# Altium footprint library PCB1.PcbLib: 16 footprints
Each footprint in its own frame and in the unit in brackets; x right, y up, seen from the top. Pads: shape width x height; smd on the part's side, far side on the other; paste and mask are expansions set on the pad; w line width, h text height; cw(c..) or ccw(c..) is an arc to the next point about the centre after c.
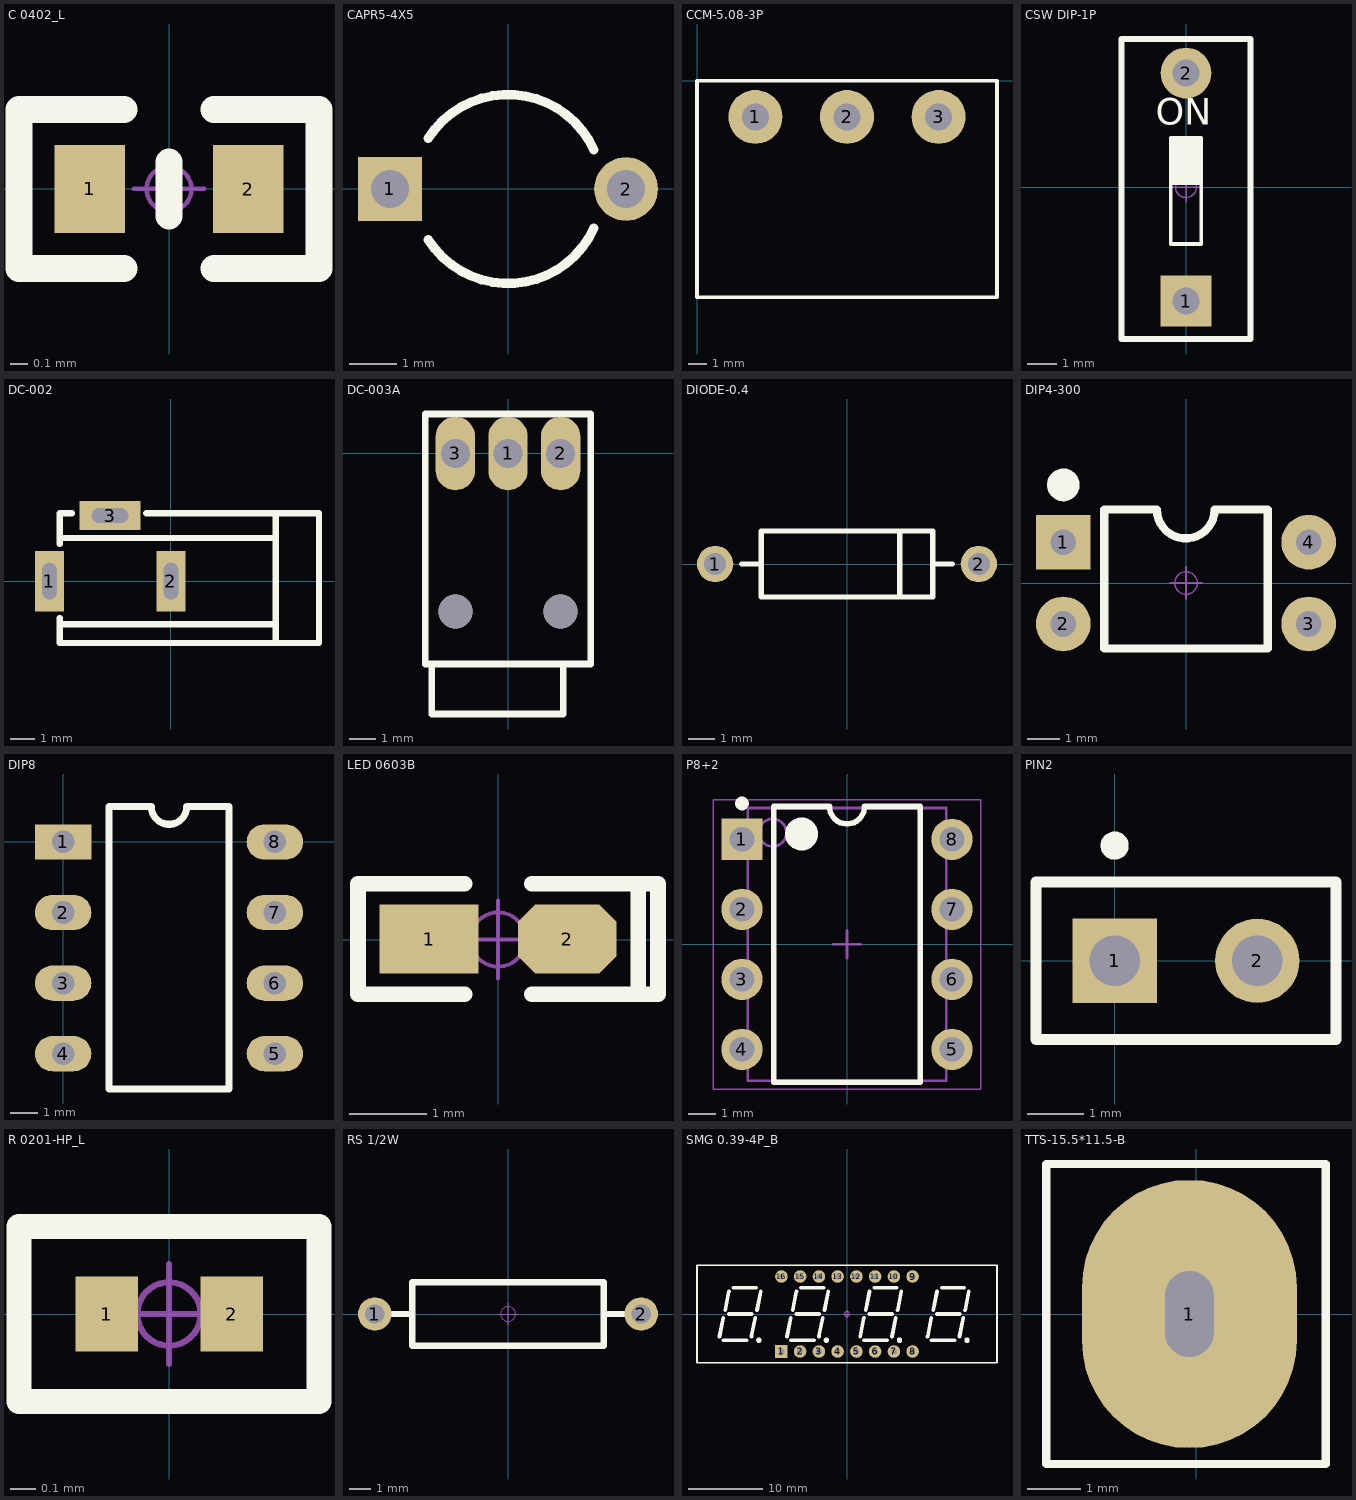
[diagram p0: the footprints below, top view; thin cyan lines are the x and y axes]

## C 0402_L [mm] "无极性贴片电容"
pads (2):
  rect 0.4x0.5 smd: 1(-0.45,0) 2(0.45,0)
Top Overlay:
  lines w0.152: -0.254,-0.45 -0.85,-0.45 ; -0.254,0.45 -0.85,0.45 -0.85,-0.45 ; 0,-0.152 0,0.152 ; 0.254,-0.45 0.85,-0.45 0.85,0.45 0.254,0.45 ; -0.85,-0.45 -0.85,-0.45
Mechanical 15:
  circle w0.025: c0,0 r0.127
  lines w0.025: -0.2,0 0.2,0 ; 0,-0.2 0,0.2
3D body "C 0402.STEP": height 0.53, standoff 0.01, extent -0.5,-0.26 0.5,0.26

## CAPR5-4X5 [mm] "Capacitor; 2 Leads"
height 12
pads (2):
  rect 1.35x1.35 hole 0.8: 1(-2.5,0)
  round 1.35 hole 0.8: 2(2.5,0)
Top Overlay:
  lines w0.2: -1.687,-1.075 ccw(c0,0) 1.819,-0.832 ; -1.687,1.075 cw(c0,0) 1.819,0.832

## CCM-5.08-3P [mm] "蒜米工坊"
pads (3):
  round 3 hole 1.5: 1(3.24,-2) 2(8.32,-2) 3(13.4,-2)
Top Overlay:
  lines w0.203: 5.08,-12 16.64,-12 16.64,0 5.08,0 ; 11.56,-12 0,-12 0,0 11.56,0
3D body "5.08-3P.STEP": height 8.5, standoff -4, extent 0.062,-11.938 16.702,0.062

## CSW DIP-1P [mm] "4.1*9.9*7mm"
pads (2):
  rect 1.7x1.7 hole 0.9: 1(0,-3.81)
  round 1.7 hole 0.9: 2(0,3.81)
Top Overlay:
  rectangle: -0.508,0.127 0.508,1.651
  lines w0.127: -0.508,0.127 0.508,0.127 ; -0.508,-1.905 -0.508,1.651 0.508,1.651 0.508,-1.905 -0.508,-1.905
  lines w0.2: -2.159,-5.08 -2.159,4.953 2.159,4.953 2.159,-5.08 -2.159,-5.08
  text "ON" at -1.016,1.778 h1.52
Mechanical 15:
  circle w0.05: c0,0 r0.35
  lines w0.05: -0.5,0 0.5,0 ; 0,-0.5 0,0.5
3D body "CSW DIP-1P.STEP": height 6.65, standoff -3.15, extent -2.05,-4.95 2.05,4.95

## DC-002 [mm] "3.5*1.1mm,"
pads (3):
  rect 1.2x2.5 hole 0.6 slot 1.5 at 90 deg: 1(-5,0) 2(0,0)
  rect 2.5x1.2 hole 0.6 slot 1.5 at 0 deg: 3(-2.5,2.7)
Top Overlay:
  lines w0.254: -4.572,-1.778 4.318,-1.778 ; -4.572,-1.524 -4.572,-2.54 6.096,-2.54 6.096,2.794 -1.016,2.794 ; -4.572,1.524 -4.572,2.794 -4.064,2.794 ; -4.572,1.778 4.318,1.778 ; 4.318,-2.54 4.318,-1.778 ; 4.318,2.794 4.318,1.778 ; 4.318,-1.778 4.318,1.778
3D body "dc-002.STEP": height 7.3, standoff -3.4, extent -5.3,-2.5 6,2.85

## DC-003A [mm] "3.5*1.1mm"
pads (3):
  oval 1.5x2.8 hole 1.1: 1(0,0) 2(2,0) 3(-2,0)
via -2,-6 diameter 1.3 hole 1.3
via 2,-6 diameter 1.3 hole 1.3
Top Overlay:
  lines w0.254: -2.896,-8 -2.896,-9.9 2.104,-9.9 2.104,-8 ; -3.15,-8 -3.15,1.5 3.15,1.5 3.15,-8 -3.15,-8
3D body "dc-003A.STEP": height 5.02, standoff -3.18, extent -3.15,-9.9 3.15,1

## DIODE-0.4 [mm] "Diode, Thru-Hole; 2 Leads; 0.4 in Pin Spacing"
height 2.54
pads (2):
  round 1.4 hole 0.85: 1(-5.08,0) 2(5.08,0)
Top Overlay:
  lines w0.2: -4.064,0 -3.302,0 ; 2.032,-1.27 2.032,1.27 ; 3.302,0 4.064,0 ; -3.302,-1.27 -3.302,1.27 3.302,1.27 3.302,-1.27 -3.302,-1.27

## DIP4-300 [mm] "4.6*7.6*3.8(长宽高）"
pads (4):
  rect 1.7x1.7 hole 0.8: 1(-3.81,1.27)
  round 1.7 hole 0.8: 2(-3.81,-1.27) 3(3.81,-1.27) 4(3.81,1.27)
Top Overlay:
  circle w0.508: c-3.81,3.048 r0.254
  lines w0.254: -2.54,-2.032 2.54,-2.032 2.54,2.286 0.889,2.286 cw(c-0.009,2.286) -0.907,2.286 -2.54,2.286 -2.54,-2.032
Mechanical 15:
  circle w0.05: c0,0 r0.35
  lines w0.05: -0.5,0 0.5,0 ; 0,-0.5 0,0.5
3D body "DIP4-300.STEP": height 4.5, standoff -3.29, extent -3.935,-2.29 3.935,2.29

## DIP8 [mil] "8脚300mil直插集成电路（蒜米工坊）"
pads (8):
  rect 80x50 hole 32: 1(0,0)
  oval 80x50 hole 32: 2(0,-100) 3(0,-200) 4(0,-300) 5(300,-300) 6(300,-200) 7(300,-100) 8(300,0)
Top Overlay:
  lines w10: 65,-350 235,-350 235,50 175,50 cw(c150,50) 125,50 65,50 65,-350
3D body "DIP8.STEP": height 177.17, standoff -137.8, extent -2.76,-362.6 302.77,62.6

## LED 0603B [mil] "蓝色0603LED"
pads (2):
  rect 50x35 smd: 1(-35,0.26)
  oct 50x35 smd: 2(35,0.26)
Top Overlay:
  lines w8: -17,-27.74 -71,-27.74 -71,-25.74 -71,28.26 -70,28.26 -17,28.26 ; 17,-27.74 70,-27.74 ; 17,28.26 71,28.26 81,28.26 81,-27.74 71,-27.74 71,26.26
Mechanical 15:
  circle w1.97: c0,0 r13.78
  lines w1.97: -19.68,0 19.68,0 ; 0,-19.68 0,19.68
3D body "LED 0603-B.STEP": height 18.36, standoff -0.16, extent -31.49,-15.79 31.5,15.79
3D body "LED 0603玻璃罩.STEP": height 23.82, standoff 8.07, extent -23.58,-15.79 23.58,15.79

## P8+2 [mm] "DIP, 8-Leads, Row Spacing 7.62mm, Pitch 2.54mm, Body 9.4x7mm"
height 4.58
pads (8):
  rect 1.5x1.5 hole 0.9: 1(-3.81,3.81)
  round 1.5 hole 0.9: 2(-3.81,1.27) 3(-3.81,-1.27) 4(-3.81,-3.81) 5(3.81,-3.81) 6(3.81,-1.27) 7(3.81,1.27) 8(3.81,3.81)
Top Overlay:
  circle w0.25: c-3.81,5.11 r0.125
  circle w0.6: c-1.65,4 r0.3
  lines w0.2: -2.65,-5 -2.65,5 -0.635,5 ccw(c0,5) 0.635,5 2.65,5 2.65,-5 -2.65,-5
Mechanical 13:
  circle w0.1: c-2.7,4.05 r0.5
  lines w0.1: -3.6,-4.95 -3.6,4.95 3.6,4.95 3.6,-4.95 -3.6,-4.95
Mechanical 15:
  lines w0.05: -4.85,-5.25 -4.85,5.25 4.85,5.25 4.85,-5.25 -4.85,-5.25
  lines w0.1: -0.5,0 0.5,0 ; 0,-0.5 0,0.5
3D body: height 4.57, standoff 0.38, extent -3.6,-4.95 3.6,4.95

## PIN2 [mm] "Photosensitive Diode; 2 Leads"
pads (2):
  rect 1.5x1.5 hole 0.9: 1(0,0)
  round 1.5 hole 0.9: 2(2.54,0)
Top Overlay:
  circle w0.25: c0,2.05 r0.125
  lines w0.2: -1.4,-1.4 -1.4,1.4 3.94,1.4 3.94,-1.4 -1.4,-1.4

## R 0201-HP_L [mm] "1/20W高精度贴片电阻"
pads (2):
  rect 0.25x0.3 smd: 1(-0.25,0) 2(0.25,0)
Top Overlay:
  lines w0.102: -0.6,-0.35 -0.6,0.35 0.6,0.35 0.6,-0.35 -0.6,-0.35
Mechanical 15:
  circle w0.025: c0,0 r0.127
  lines w0.025: -0.2,0 0.2,0 ; 0,-0.2 0,0.2
3D body "R 0201-HP.STEP": height 0.23, standoff 0, extent -0.3,-0.15 0.3,0.15

## RS 1/2W [mm] "直插色环电阻，脚距12.5mm，直径3mm"
pads (2):
  round 1.575 hole 0.9: 1(-6.25,0) 2(6.25,0)
Top Overlay:
  lines w0.305: -5.5,0 -4.5,0 ; 4.5,0 5.5,0 ; -4.5,-1.5 -4.5,1.5 4.5,1.5 4.5,-1.5 -4.5,-1.5
Mechanical 15:
  circle w0.05: c0,0 r0.35
  lines w0.05: -0.5,0 0.5,0 ; 0,-0.5 0,0.5
3D body "RS 1-2W.STEP": height 3.11, standoff -3.4, extent -6.5,-1.51 6.5,1.51

## SMG 0.39-4P_B [mm] "40.2*13*7mm(长宽厚) 时钟型"
pads (16):
  rect 1.7x1.7 hole 0.8: 1(-8.89,-5.08)
  round 1.7 hole 0.8: 2(-6.35,-5.08) 3(-3.81,-5.08) 4(-1.27,-5.08) 5(1.27,-5.08) 6(3.81,-5.08) 7(6.35,-5.08) 8(8.89,-5.08) 9(8.89,5.08) 10(6.35,5.08) 11(3.81,5.08) 12(1.27,5.08) 13(-1.27,5.08) 14(-3.81,5.08) 15(-6.35,5.08) 16(-8.89,5.08)
Top Overlay:
  circle w0.381: c7.112,-3.556 r0.18
  circle w0.381: c16.256,-3.556 r0.18
  circle w0.381: c-11.938,-3.556 r0.18
  circle w0.381: c-2.794,-3.556 r0.18
  lines w0.254: -20.32,-6.604 20.32,-6.604 20.32,6.604 -20.32,6.604 -20.32,-6.604
  lines w0.508: -17.272,-3.048 -16.764,-0.508 ; -16.764,-3.556 -13.589,-3.556 ; -16.51,0.508 -16.002,3.048 ; -16.002,0 -12.954,0 ; -15.367,3.556 -12.319,3.556 ; -12.954,-3.048 -12.446,-0.508 ; -12.192,0.508 -11.684,3.048 ; -8.128,-3.048 -7.62,-0.508 ; -7.62,-3.556 -4.445,-3.556 ; -7.366,0.508 -6.858,3.048 ; -6.223,3.556 -3.175,3.556 ; -3.81,-3.048 -3.302,-0.508 ; -3.048,0.508 -2.54,3.048 ; 1.778,-3.048 2.286,-0.508 ; 2.286,-3.556 5.461,-3.556 ; 2.54,0.508 3.048,3.048 ; 3.048,0 6.096,0 ; 3.683,3.556 6.731,3.556 ; 6.096,-3.048 6.604,-0.508 ; 6.858,0.508 7.366,3.048 ; 10.922,-3.048 11.43,-0.508 ; 11.43,-3.556 14.605,-3.556 ; 11.684,0.508 12.192,3.048 ; 12.827,3.556 15.875,3.556 ; 15.24,-3.048 15.748,-0.508 ; 16.002,0.508 16.51,3.048 ; -6.858,0 -3.81,0 -6.858,0 ; 12.192,0 15.24,0 12.192,0
Mechanical 15:
  circle w0.05: c0,0 r0.35
  lines w0.05: -0.5,0 0.5,0 ; 0,-0.5 0,0.5
3D body "SMG 0.39-4P_B.STEP": height 7, standoff -3.6, extent -20.09,-6.5 20.09,6.5

## TTS-15.5*11.5-B [mm] "弹簧按键15.5mm*11.5mm(直径*高度）"
pads (1):
  oval 4x5 hole 0.9 slot 1.6 at 90 deg: 1(-0.127,0)
Top Overlay:
  lines w0.152: -2.794,-2.794 2.413,-2.794 2.413,2.794 -2.794,2.794 -2.794,-2.794